# Altium footprint library PCBFootprint_SMD.PcbLib: 197 footprints (part 6 of 13)
Each footprint in its own frame and in the unit in brackets; x right, y up, seen from the top. Pads: shape width x height; smd on the part's side, far side on the other; paste and mask are expansions set on the pad; w line width, h text height; cw(c..) or ccw(c..) is an arc to the next point about the centre after c.
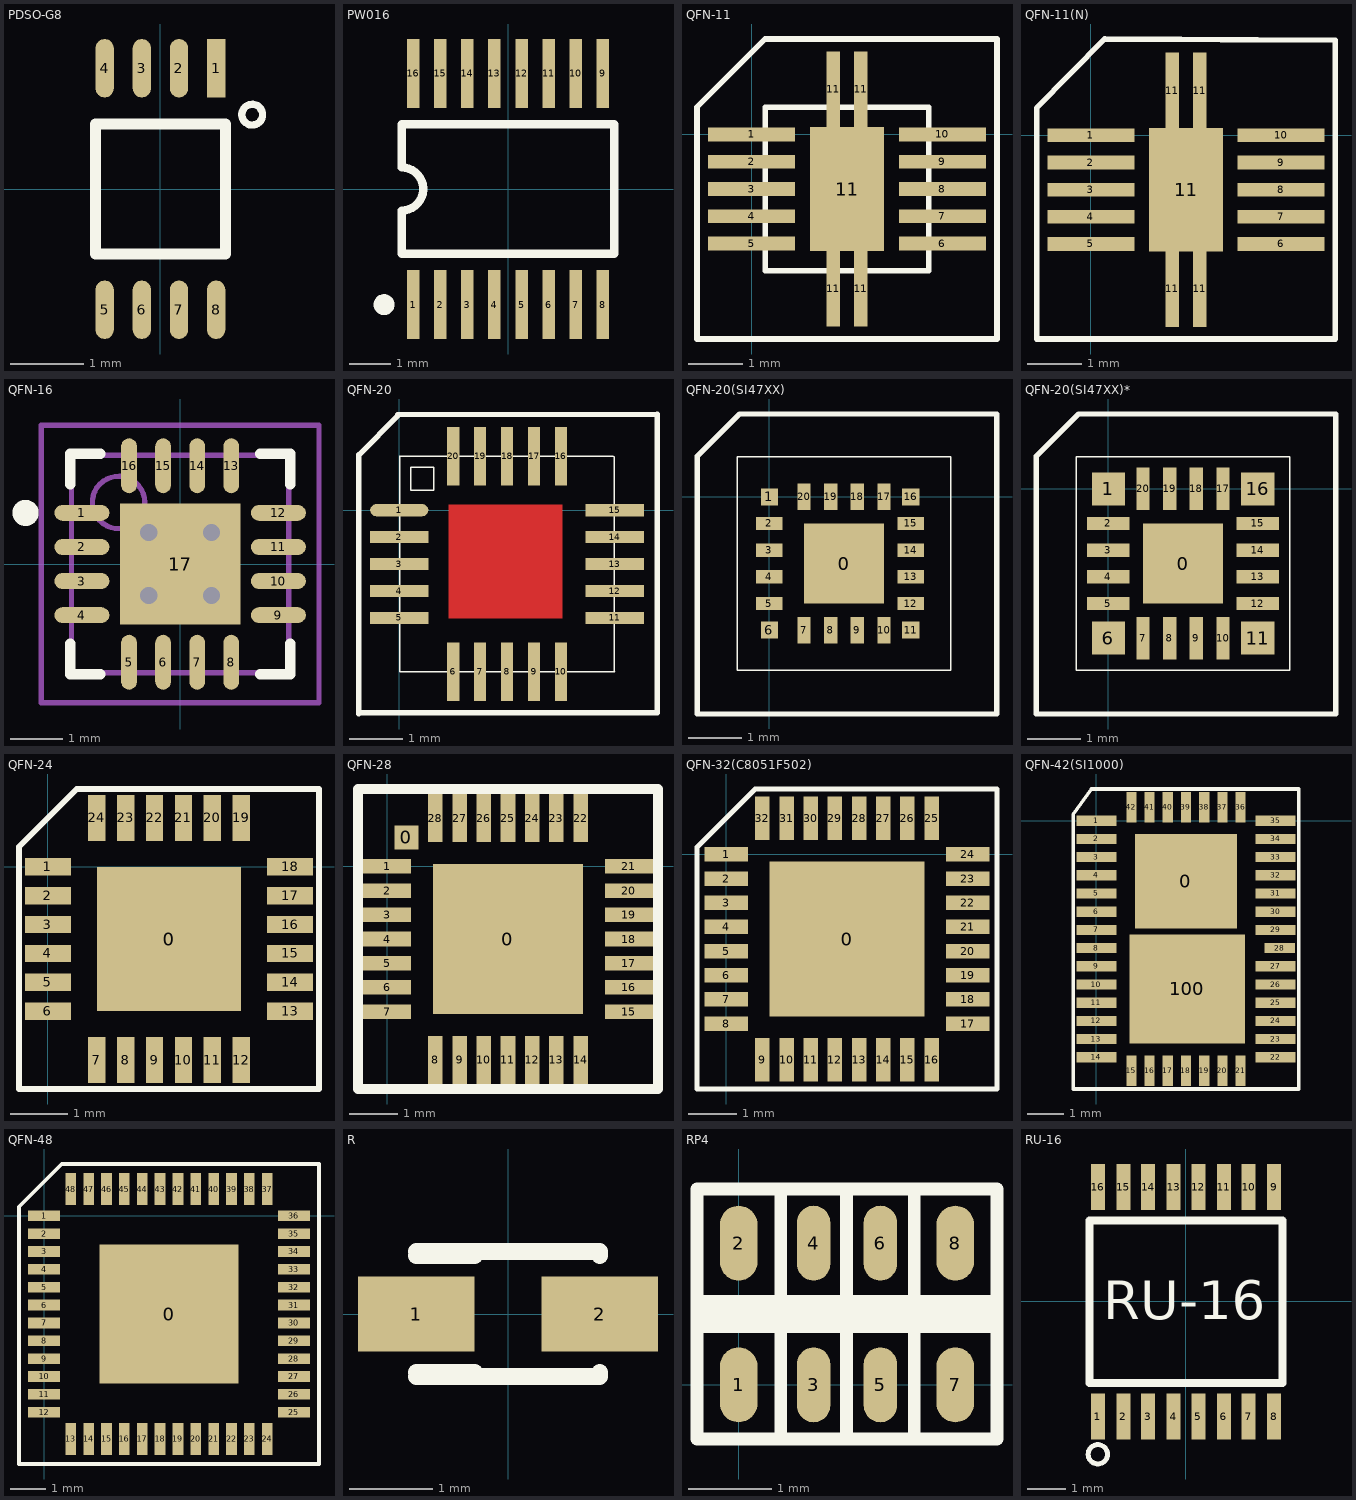
[diagram p5: the footprints below, top view; thin cyan lines are the x and y axes]

## PDSO-G8 [mm] "U"
height 4
pads (8):
  rect 0.25x0.8 smd: 1(0.762,1.651)
  oval 0.25x0.8 smd: 2(0.254,1.651) 3(-0.254,1.651) 4(-0.762,1.651) 5(-0.762,-1.651) 6(-0.254,-1.651) 7(0.254,-1.651) 8(0.762,-1.651)
Top Overlay:
  circle w0.1: c1.255,1.016 r0.142
  lines w0.15: -0.889,-0.889 0.889,-0.889 0.889,0.889 -0.889,0.889 -0.889,-0.889

## PW016 [mm] "Shrink Small Outline; 16 Leads; Body Width 4.4 mm; Pitch 0.65 mm"
height 1.2
pads (16):
  rect 0.3x1.65 smd: 1(-2.275,-2.775) 2(-1.625,-2.775) 3(-0.975,-2.775) 4(-0.325,-2.775) 5(0.325,-2.775) 6(0.975,-2.775) 7(1.625,-2.775) 8(2.275,-2.775) 9(2.275,2.775) 10(1.625,2.775) 11(0.975,2.775) 12(0.325,2.775) 13(-0.325,2.775) 14(-0.975,2.775) 15(-1.625,2.775) 16(-2.275,2.775)
Top Overlay:
  circle w0.25: c-2.975,-2.775 r0.125
  lines w0.2: -2.55,-1.55 2.55,-1.55 2.55,1.55 -2.55,1.55 -2.55,0.517 cw(c-2.55,0) -2.55,-0.517 -2.55,-1.55

## QFN-11 [mm]
pads (15):
  rect 1.6x0.25 smd: 1(0,0) 2(0,-0.5) 3(0,-1) 4(0,-1.5) 5(0,-2) 6(3.5,-2) 7(3.5,-1.5) 8(3.5,-1) 9(3.5,-0.5) 10(3.5,0)
  rect 0.25x1.4 smd: 11(1.5,-2.825) 11(1.5,0.825) 11(2,-2.825) 11(2,0.825)
  rect 1.36x2.27 smd: 11(1.75,-1)
Top Overlay:
  lines w0.102: -1,-3.75 4.5,-3.75 4.5,1.75 0.25,1.75 -1,0.5 -1,-3.75 ; 0.25,-2.5 3.25,-2.5 3.25,0.5 0.25,0.5 0.25,-2.5

## QFN-11(N) [mm]
pads (15):
  rect 1.6x0.25 smd: 1(0,0) 2(0,-0.5) 3(0,-1) 4(0,-1.5) 5(0,-2) 6(3.5,-2) 7(3.5,-1.5) 8(3.5,-1) 9(3.5,-0.5) 10(3.5,0)
  rect 0.25x1.4 smd: 11(1.5,-2.825) 11(1.5,0.825) 11(2,-2.825) 11(2,0.825)
  rect 1.36x2.27 smd: 11(1.75,-1)
Top Overlay:
  lines w0.102: -1,-3.75 -1,0.5 0.25,1.775 4.5,1.75 4.5,-3.75 1.75,-3.75 -1,-3.75

## QFN-16 [mm] "QFN"
height 0.8
pads (17):
  oval 1.05x0.3 smd: 1(-1.875,0.975) 2(-1.875,0.325) 3(-1.875,-0.325) 4(-1.875,-0.975) 9(1.875,-0.975) 10(1.875,-0.325) 11(1.875,0.325) 12(1.875,0.975)
  oval 0.3x1.05 smd: 5(-0.975,-1.875) 6(-0.325,-1.875) 7(0.325,-1.875) 8(0.975,-1.875) 13(0.975,1.875) 14(0.325,1.875) 15(-0.325,1.875) 16(-0.975,1.875)
  rect 2.3x2.3 smd: 17(0,0)
via 0.6,-0.6 diameter 0.66 hole 0.33
via -0.6,-0.6 diameter 0.66 hole 0.33
via 0.6,0.6 diameter 0.66 hole 0.33
via -0.6,0.6 diameter 0.66 hole 0.33
Top Overlay:
  circle w0.25: c-2.95,0.975 r0.125
  lines w0.2: -2.1,-1.525 -2.1,-2.1 -1.525,-2.1 ; -2.1,1.525 -2.1,2.1 -1.525,2.1 ; 1.525,-2.1 2.1,-2.1 2.1,-1.525 ; 1.525,2.1 2.1,2.1 2.1,1.525
Mechanical 13:
  circle w0.1: c-1.175,1.175 r0.5
  lines w0.1: -2.075,-2.075 2.075,-2.075 2.075,2.075 -2.075,2.075 -2.075,-2.075
Mechanical 15:
  lines w0.1: -0.5,0 0.5,0 ; 0,-0.5 0,0.5 ; -2.65,-2.65 2.65,-2.65 2.65,2.65 -2.65,2.65 -2.65,-2.65
3D body: height 0.8, standoff 0, extent -2.075,-2.075 2.075,2.075

## QFN-20 [mm]
pads (20):
  oval 1.1x0.23 smd: 1(0,0)
  rect 1.1x0.23 smd: 2(0,-0.508) 3(0,-1.016) 4(0,-1.524) 5(0,-2.032) 11(4.064,-2.032) 12(4.064,-1.524) 13(4.064,-1.016) 14(4.064,-0.508) 15(4.064,0)
  rect 0.23x1.1 smd: 6(1.016,-3.048) 7(1.524,-3.048) 8(2.032,-3.048) 9(2.54,-3.048) 10(3.048,-3.048) 16(3.048,1.016) 17(2.54,1.016) 18(2.032,1.016) 19(1.524,1.016) 20(1.016,1.016)
Top Layer:
  region: 0.926,0.104 0.926,-2.046 3.076,-2.046 3.076,0.104
  lines w0.025: -0.762,-3.841 -0.741,-3.821 ; -0.014,1.792 -0.014,1.812 ; 4.85,1.802 4.861,1.812
Top Overlay:
  lines w0.025: 0.012,-3.044 0.012,1.022 ; 0.018,-3.051 0.021,-3.048 4.063,-3.048 4.05,-3.036 4.05,1.004 4.038,1.016 3.054,1.016 0.017,1.016 0.018,1.015 ; 0.215,0.811 0.215,0.376 0.65,0.376 ; 0.219,0.811 0.654,0.811 0.654,0.376
  lines w0.1: -0.762,-3.841 -0.762,1.012 ; -0.762,1.043 -0.014,1.792 ; -0.741,-3.821 4.861,-3.821 4.861,1.812 ; -0.034,1.802 4.85,1.802

## QFN-20(SI47XX) [mm]
pads (21):
  rect 1.5x1.5 smd: 0(1.4,-1.25)
  rect 0.32x0.32 smd: 1(0,0) 6(0,-2.5) 11(2.65,-2.5) 16(2.65,0)
  rect 0.5x0.25 smd: 2(0,-0.5) 3(0,-1) 4(0,-1.5) 5(0,-2) 12(2.65,-2) 13(2.65,-1.5) 14(2.65,-1) 15(2.65,-0.5)
  rect 0.25x0.5 smd: 7(0.65,-2.5) 8(1.15,-2.5) 9(1.65,-2.5) 10(2.15,-2.5) 17(2.15,0) 18(1.65,0) 19(1.15,0) 20(0.65,0)
Top Overlay:
  lines w0.025: -0.6,-3.25 -0.6,0.75 3.4,0.75 3.4,-3.25 -0.6,-3.25
  lines w0.1: -1.35,-4.071 -1.35,0.762 -0.56,1.552 4.261,1.552 4.261,-4.071 -1.341,-4.071

## QFN-20(SI47XX)* [mm]
pads (21):
  rect 1.5x1.5 smd: 0(1.4,-1.4)
  rect 0.62x0.62 smd: 1(0,0) 6(0,-2.8) 11(2.8,-2.8) 16(2.8,0)
  rect 0.8x0.25 smd: 2(0,-0.65) 3(0,-1.15) 4(0,-1.65) 5(0,-2.15) 12(2.8,-2.15) 13(2.8,-1.65) 14(2.8,-1.15) 15(2.8,-0.65)
  rect 0.25x0.8 smd: 7(0.65,-2.8) 8(1.15,-2.8) 9(1.65,-2.8) 10(2.15,-2.8) 17(2.15,0) 18(1.65,0) 19(1.15,0) 20(0.65,0)
Top Overlay:
  lines w0.025: -0.6,-3.4 -0.6,0.6 3.4,0.6 3.4,-3.4 -0.6,-3.4
  lines w0.1: -1.35,-4.221 -1.35,0.612 -0.56,1.402 4.261,1.402 4.261,-4.221 -1.341,-4.221

## QFN-24 [mm]
pads (25):
  rect 2.5x2.5 smd: 0(2.1,-1.25)
  rect 0.8x0.3 smd: 1(0,0) 2(0,-0.5) 3(0,-1) 4(0,-1.5) 5(0,-2) 6(0,-2.5) 13(4.2,-2.5) 14(4.2,-2) 15(4.2,-1.5) 16(4.2,-1) 17(4.2,-0.5) 18(4.2,0)
  rect 0.3x0.8 smd: 7(0.85,-3.35) 8(1.35,-3.35) 9(1.85,-3.35) 10(2.35,-3.35) 11(2.85,-3.35) 12(3.35,-3.35) 19(3.35,0.85) 20(2.85,0.85) 21(2.35,0.85) 22(1.85,0.85) 23(1.35,0.85) 24(0.85,0.85)
Top Overlay:
  lines w0.1: -0.5,-3.85 -0.5,0.35 0.5,1.35 4.7,1.35 4.7,-3.85 -0.5,-3.85

## QFN-28 [mm]
pads (30):
  rect 0.5x0.5 smd: 0(0.4,0.6)
  rect 3.1x3.1 smd: 0(2.5,-1.5)
  rect 1x0.3 smd: 1(0,0) 2(0,-0.5) 3(0,-1) 4(0,-1.5) 5(0,-2) 6(0,-2.5) 7(0,-3) 15(5,-3) 16(5,-2.5) 17(5,-2) 18(5,-1.5) 19(5,-1) 20(5,-0.5) 21(5,0)
  rect 0.3x1 smd: 8(1,-4) 9(1.5,-4) 10(2,-4) 11(2.5,-4) 12(3,-4) 13(3.5,-4) 14(4,-4) 22(4,1) 23(3.5,1) 24(3,1) 25(2.5,1) 26(2,1) 27(1.5,1) 28(1,1)
Top Overlay:
  lines w0.203: -0.6,-4.6 5.6,-4.6 5.6,1.6 -0.6,1.6 -0.6,-4.6

## QFN-32(C8051F502) [mm]
pads (33):
  rect 3.2x3.2 smd: 0(2.5,-1.75)
  rect 0.9x0.3 smd: 1(0,0) 2(0,-0.5) 3(0,-1) 4(0,-1.5) 5(0,-2) 6(0,-2.5) 7(0,-3) 8(0,-3.5) 17(5,-3.5) 18(5,-3) 19(5,-2.5) 20(5,-2) 21(5,-1.5) 22(5,-1) 23(5,-0.5) 24(5,0)
  rect 0.3x0.9 smd: 9(0.75,-4.25) 10(1.25,-4.25) 11(1.75,-4.25) 12(2.25,-4.25) 13(2.75,-4.25) 14(3.25,-4.25) 15(3.75,-4.25) 16(4.25,-4.25) 25(4.25,0.75) 26(3.75,0.75) 27(3.25,0.75) 28(2.75,0.75) 29(2.25,0.75) 30(1.75,0.75) 31(1.25,0.75) 32(0.75,0.75)
Top Overlay:
  lines w0.1: -0.6,-4.85 5.6,-4.85 5.6,1.35 0.6,1.35 -0.6,0.15 -0.6,-4.85

## QFN-42(SI1000) [mil]
pads (44):
  rect 110x102 smd: 0(96.85,-65.45)
  rect 43x11 smd: 1(0,0) 2(0,-19.69) 3(0,-39.37) 4(0,-59.06) 5(0,-78.74) 6(0,-98.43) 7(0,-118.11) 8(0,-137.8) 9(0,-157.48) 10(0,-177.17) 11(0,-196.85) 12(0,-216.54) 13(0,-236.22) 14(0,-255.91) 22(193.7,-255.91) 23(193.7,-236.22) 24(193.7,-216.54) 25(193.7,-196.85) 26(193.7,-177.17) 27(193.7,-157.48) 29(193.7,-118.11) 30(193.7,-98.43) 31(193.7,-78.74) 32(193.7,-59.06) 33(193.7,-39.37) 34(193.7,-19.69) 35(193.7,0)
  rect 11x33 smd: 15(37.8,-270.45) 16(57.48,-270.45) 17(77.17,-270.45) 18(96.85,-270.45) 19(116.54,-270.45) 20(136.22,-270.45) 21(155.91,-270.45) 36(155.91,14.55) 37(136.22,14.55) 38(116.54,14.55) 39(96.85,14.55) 40(77.17,14.55) 41(57.48,14.55) 42(37.8,14.55)
  rect 33x11 smd: 28(198.03,-137.8)
  rect 125x118 smd: 100(98.35,-181.95)
Top Overlay:
  lines w3.9: -25.2,-290.16 -25.2,6.65 -5.51,34.25 218.9,34.25 218.9,-290.16 -25.2,-290.16

## QFN-48 [mm]
pads (49):
  rect 3.9x3.9 smd: 0(3.5,-2.75)
  rect 0.9x0.3 smd: 1(0,0) 2(0,-0.5) 3(0,-1) 4(0,-1.5) 5(0,-2) 6(0,-2.5) 7(0,-3) 8(0,-3.5) 9(0,-4) 10(0,-4.5) 11(0,-5) 12(0,-5.5) 25(7,-5.5) 26(7,-5) 27(7,-4.5) 28(7,-4) 29(7,-3.5) 30(7,-3) 31(7,-2.5) 32(7,-2) 33(7,-1.5) 34(7,-1) 35(7,-0.5) 36(7,0)
  rect 0.3x0.9 smd: 13(0.75,-6.25) 14(1.25,-6.25) 15(1.75,-6.25) 16(2.25,-6.25) 17(2.75,-6.25) 18(3.25,-6.25) 19(3.75,-6.25) 20(4.25,-6.25) 21(4.75,-6.25) 22(5.25,-6.25) 23(5.75,-6.25) 24(6.25,-6.25) 37(6.25,0.75) 38(5.75,0.75) 39(5.25,0.75) 40(4.75,0.75) 41(4.25,0.75) 42(3.75,0.75) 43(3.25,0.75) 44(2.75,0.75) 45(2.25,0.75) 46(1.75,0.75) 47(1.25,0.75) 48(0.75,0.75)
Top Overlay:
  lines w0.1: -0.7,-6.95 -0.7,0.25 0.5,1.45 7.7,1.45 7.7,-6.95 -0.7,-6.95

## R [mm] "Capacitor, SM Tantalum; Body 2.0 x 1.3 mm (LxW typ)"
height 1.2
pads (2):
  rect 1.4x0.9 smd: 1(-1.1,0) 2(1.1,0)
Top Overlay:
  lines w0.2: -1.1,-0.75 1.1,-0.75 1.1,-0.7 ; -1.1,-0.7 -0.4,-0.7 ; -1.1,0.7 -0.4,0.7 ; -1.1,0.75 1.1,0.75 1.1,0.7

## RP4 [mm]
pads (8):
  oval 0.45x0.9 smd: 1(0,0) 2(0,1.7) 7(2.6,0) 8(2.6,1.7)
  oval 0.4x0.9 smd: 3(0.9,0) 4(0.9,1.7) 5(1.7,0) 6(1.7,1.7)
Top Overlay:
  lines w0.025: -0.45,-0.45 -0.45,2.15 ; -0.45,-0.45 -0.45,2.15 ; -0.45,-0.45 -0.45,2.15 ; 3.05,-0.45 3.05,2.15 ; 3.05,-0.45 3.05,2.15 ; 3.05,-0.45 3.05,2.15
  lines w0.152: -0.498,1 -0.332,1 2.945,1 3.098,1 3.049,0.901 -0.5,0.901 -0.5,0.799 3.049,0.799 3.047,0.7 2.945,0.7 -0.332,0.7 -0.472,0.7 ; 0.506,-0.65 0.506,2.35 ; 1.294,-0.65 1.294,2.35 ; 2.107,-0.65 2.107,2.35 ; 2.621,-0.65 3.1,-0.65 3.1,2.35 -0.5,2.35 -0.5,-0.65 -0.4,-0.65 3,-0.65

## RU-16 [mil]
pads (16):
  rect 14.2x46.9 smd: 1(-89.31,-117.3) 2(-63.31,-117.3) 3(-38.11,-117.3) 4(-12.11,-117.3) 5(13.09,-117.3) 6(39.09,-117.3) 7(64.29,-117.3) 8(90.29,-117.3) 9(90.29,116.5) 10(64.29,116.5) 11(39.09,116.5) 12(13.09,116.5) 13(-12.11,116.5) 14(-38.11,116.5) 15(-63.31,116.5) 16(-89.31,116.5)
Top Overlay:
  lines w5: -99.11,-155.65 cw(c-89.26,-155.65) -79.41,-155.65 cw(c-89.26,-155.65) -99.11,-155.65
  lines w8: -97.91,-83.1 -97.91,82.3 98.89,82.3 98.89,-83.1 -97.91,-83.1
  text "RU-16" at -84,-18 h39.37